# Altium schematic symbol library PWM Controllers.SchLib: 1 symbol
Pins are listed as number, name and electrical type; pins without a type are passive.

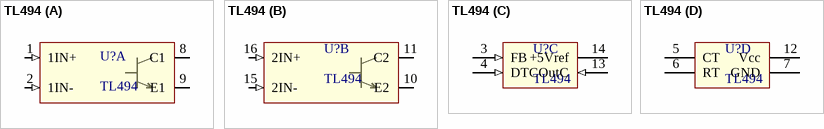
[diagram p0: symbol TL494]

## TL494
designator U?
PWM control circuit
footprint DIP-16
part A pins: 1 1IN+ (in), 2 1IN- (in), 8 C1 (oc), 9 E1 (oe)
part B pins: 10 E2 (oe), 11 C2 (oc), 15 2IN- (in), 16 2IN+ (in)
part C pins: 3 FB (in), 4 DTC (in), 13 OutC (in), 14 +5Vref
part D pins: 5 CT, 6 RT, 7 GND, 12 Vcc